# EAGLE library part MR45V100AMAZAATL (library MStar-WLAN)
FRAM
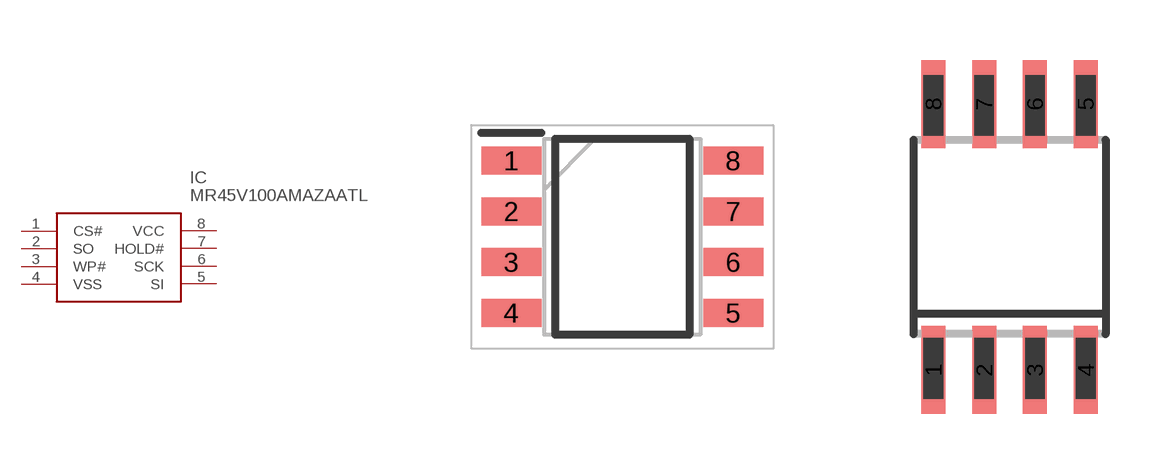
[diagram p13: symbol with the pads of SOIC127P600X165-8N; footprints SOIC127P600X165-8N, SO-08M]

Designator prefix IC

## MR45V100AMAZAATL (DESCRIPTION: ROHM - MR45V100AMAZAATL - F-RAM, NON-VOL, 1MBIT, 40MHZ, SOP-8; HEIGHT: 1.65mm; MANUFACTURER_NAME: ROHM Semiconductor; MANUFACTURER_PART_NUMBER: MR45V100AMAZAATL; MOUSER_PART_NUMBER: 755-MR45V100AMAZAATL; MOUSER_PRICE-STOCK: https://www.mouser.co.uk/ProductDetail/ROHM-Semiconductor/MR45V100AMAZAATL?qs=f9yNj16SXrIQxXR3htoTrA%3D%3D)  [SOIC127P600X165-8N]
1  CS#
2  SO
3  WP#
4  VSS
5  SI
6  SCK
7  HOLD#
8  VCC

## MR45V100AMAZAATLSO8M  [SO-08M]
Pads as for SOIC127P600X165-8N

## Footprint SOIC127P600X165-8N (pad centres in mm)
8-p SOP
smd 1.5 x 0.7: 1 -2.775,1.905; 2 -2.775,0.635; 3 -2.775,-0.635; 4 -2.775,-1.905; 5 2.775,-1.905; 6 2.775,-0.635; 7 2.775,0.635; 8 2.775,1.905

## Footprint SO-08M (pad centres in mm)
Small Outline Medium Plastic Gull Wing 207-mil body, package type SM
smd 0.6 x 2.2: 1 -1.905,-3.33; 2 -0.635,-3.33; 3 0.635,-3.33; 4 1.905,-3.33; 5 1.905,3.33; 6 0.635,3.33; 7 -0.635,3.33; 8 -1.905,3.33